# Altium integrated library CD74HC151E.IntLib: 1 symbol
Pins are listed as number, name and electrical type; pins without a type are passive.

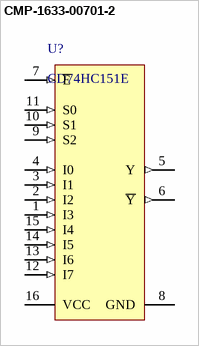
[diagram p0: symbol CMP-1633-00701-2]

## CMP-1633-00701-2
designator U?, comment CD74HC151E
High Speed CMOS Logic 8-Input Multiplexer, N0016A, TUBE; Manufacturer: Texas Instruments; Input Type: LVTTL/CMOS; F @ Nom Voltage(Max)(Mhz): 28; Rating: Catalog; Bits(#): 8; VCC(Min)(V): 2; Configuration: 8：1; ICC @ Nom Voltage(Max)(mA): 0.08; Function: Encoder/Multiplexer; Channels(#): 1; Voltage(Nom)(V): 3.3,5; Technology Family: HC; VCC(Max)(V): 6; Schmitt Trigger: No; tpd @ Nom Voltage(Max)(ns): 43; Output Drive (IOL/IOH)(Max)(mA): 5.2/-5.2; DatasheetVersion: SCHS150C; Output Type: CMOS; Generic Part Number: CD74HC151; Type: Standard; Operating Temperature Range(C): -55 to 125; PackageReference: N0016A; Code_JEDEC: MS-001
footprint N0016A (DIP, 16-Leads, Body 19.7x6.6mm, Pitch 2.54mm)
pins: 1 I3 (in), 2 I2 (in), 3 I1 (in), 4 I0 (in), 5 Y (out), 6 ~{Y} (out), 7 ~{E} (in), 8 GND (power), 9 S2 (in), 10 S1 (in), 11 S0 (in), 12 I7 (in), 13 I6 (in), 14 I5 (in), 15 I4 (in), 16 VCC (power)